# Altium schematic symbol library mylib.SchLib: 51 symbols
Pins are listed as number, name and electrical type; pins without a type are passive.

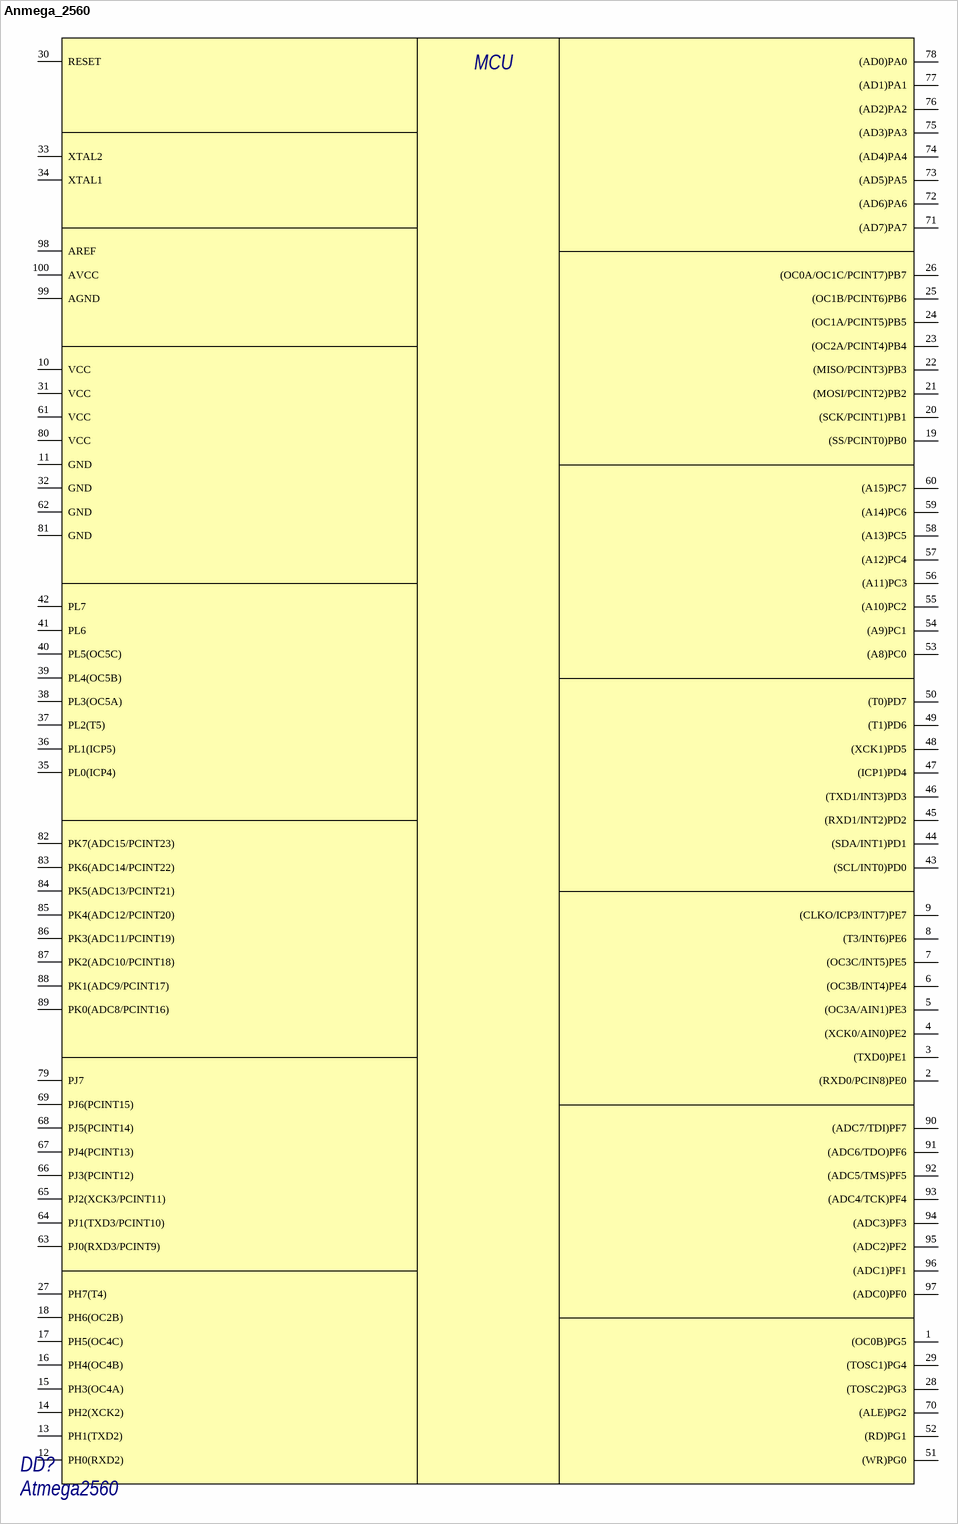
[diagram p0: symbol Anmega_2560]

## Anmega_2560
designator DD?, comment Atmega2560
Name: Atmega2560
footprint 100A (atmega2560)
pins: 1 (OC0B)PG5, 2 (RXD0/PCIN8)PE0, 3 (TXD0)PE1, 4 (XCK0/AIN0)PE2, 5 (OC3A/AIN1)PE3, 6 (OC3B/INT4)PE4, 7 (OC3C/INT5)PE5, 8 (T3/INT6)PE6, 9 (CLKO/ICP3/INT7)PE7, 10 VCC, 11 GND, 12 PH0(RXD2), 13 PH1(TXD2), 14 PH2(XCK2), 15 PH3(OC4A), 16 PH4(OC4B), 17 PH5(OC4C), 18 PH6(OC2B), 19 (SS/PCINT0)PB0, 20 (SCK/PCINT1)PB1, 21 (MOSI/PCINT2)PB2, 22 (MISO/PCINT3)PB3, 23 (OC2A/PCINT4)PB4, 24 (OC1A/PCINT5)PB5, 25 (OC1B/PCINT6)PB6, 26 (OC0A/OC1C/PCINT7)PB7, 27 PH7(T4), 28 (TOSC2)PG3, 29 (TOSC1)PG4, 30 RESET, 31 VCC, 32 GND, 33 XTAL2, 34 XTAL1, 35 PL0(ICP4), 36 PL1(ICP5), 37 PL2(T5), 38 PL3(OC5A), 39 PL4(OC5B), 40 PL5(OC5C), 41 PL6, 42 PL7, 43 (SCL/INT0)PD0, 44 (SDA/INT1)PD1, 45 (RXD1/INT2)PD2, 46 (TXD1/INT3)PD3, 47 (ICP1)PD4, 48 (XCK1)PD5, 49 (T1)PD6, 50 (T0)PD7, 51 (WR)PG0, 52 (RD)PG1, 53 (A8)PC0, 54 (A9)PC1, 55 (A10)PC2, 56 (A11)PC3, 57 (A12)PC4, 58 (A13)PC5, 59 (A14)PC6, 60 (A15)PC7, 61 VCC, 62 GND, 63 PJ0(RXD3/PCINT9), 64 PJ1(TXD3/PCINT10), 65 PJ2(XCK3/PCINT11), 66 PJ3(PCINT12), 67 PJ4(PCINT13), 68 PJ5(PCINT14), 69 PJ6(PCINT15), 70 (ALE)PG2, 71 (AD7)PA7, 72 (AD6)PA6, 73 (AD5)PA5, 74 (AD4)PA4, 75 (AD3)PA3, 76 (AD2)PA2, 77 (AD1)PA1, 78 (AD0)PA0, 79 PJ7, 80 VCC, 81 GND, 82 PK7(ADC15/PCINT23), 83 PK6(ADC14/PCINT22), 84 PK5(ADC13/PCINT21), 85 PK4(ADC12/PCINT20), 86 PK3(ADC11/PCINT19), 87 PK2(ADC10/PCINT18), 88 PK1(ADC9/PCINT17), 89 PK0(ADC8/PCINT16), 90 (ADC7/TDI)PF7, 91 (ADC6/TDO)PF6, 92 (ADC5/TMS)PF5, 93 (ADC4/TCK)PF4, 94 (ADC3)PF3, 95 (ADC2)PF2, 96 (ADC1)PF1, 97 (ADC0)PF0, 98 AREF, 99 AGND, 100 AVCC
text: MCU

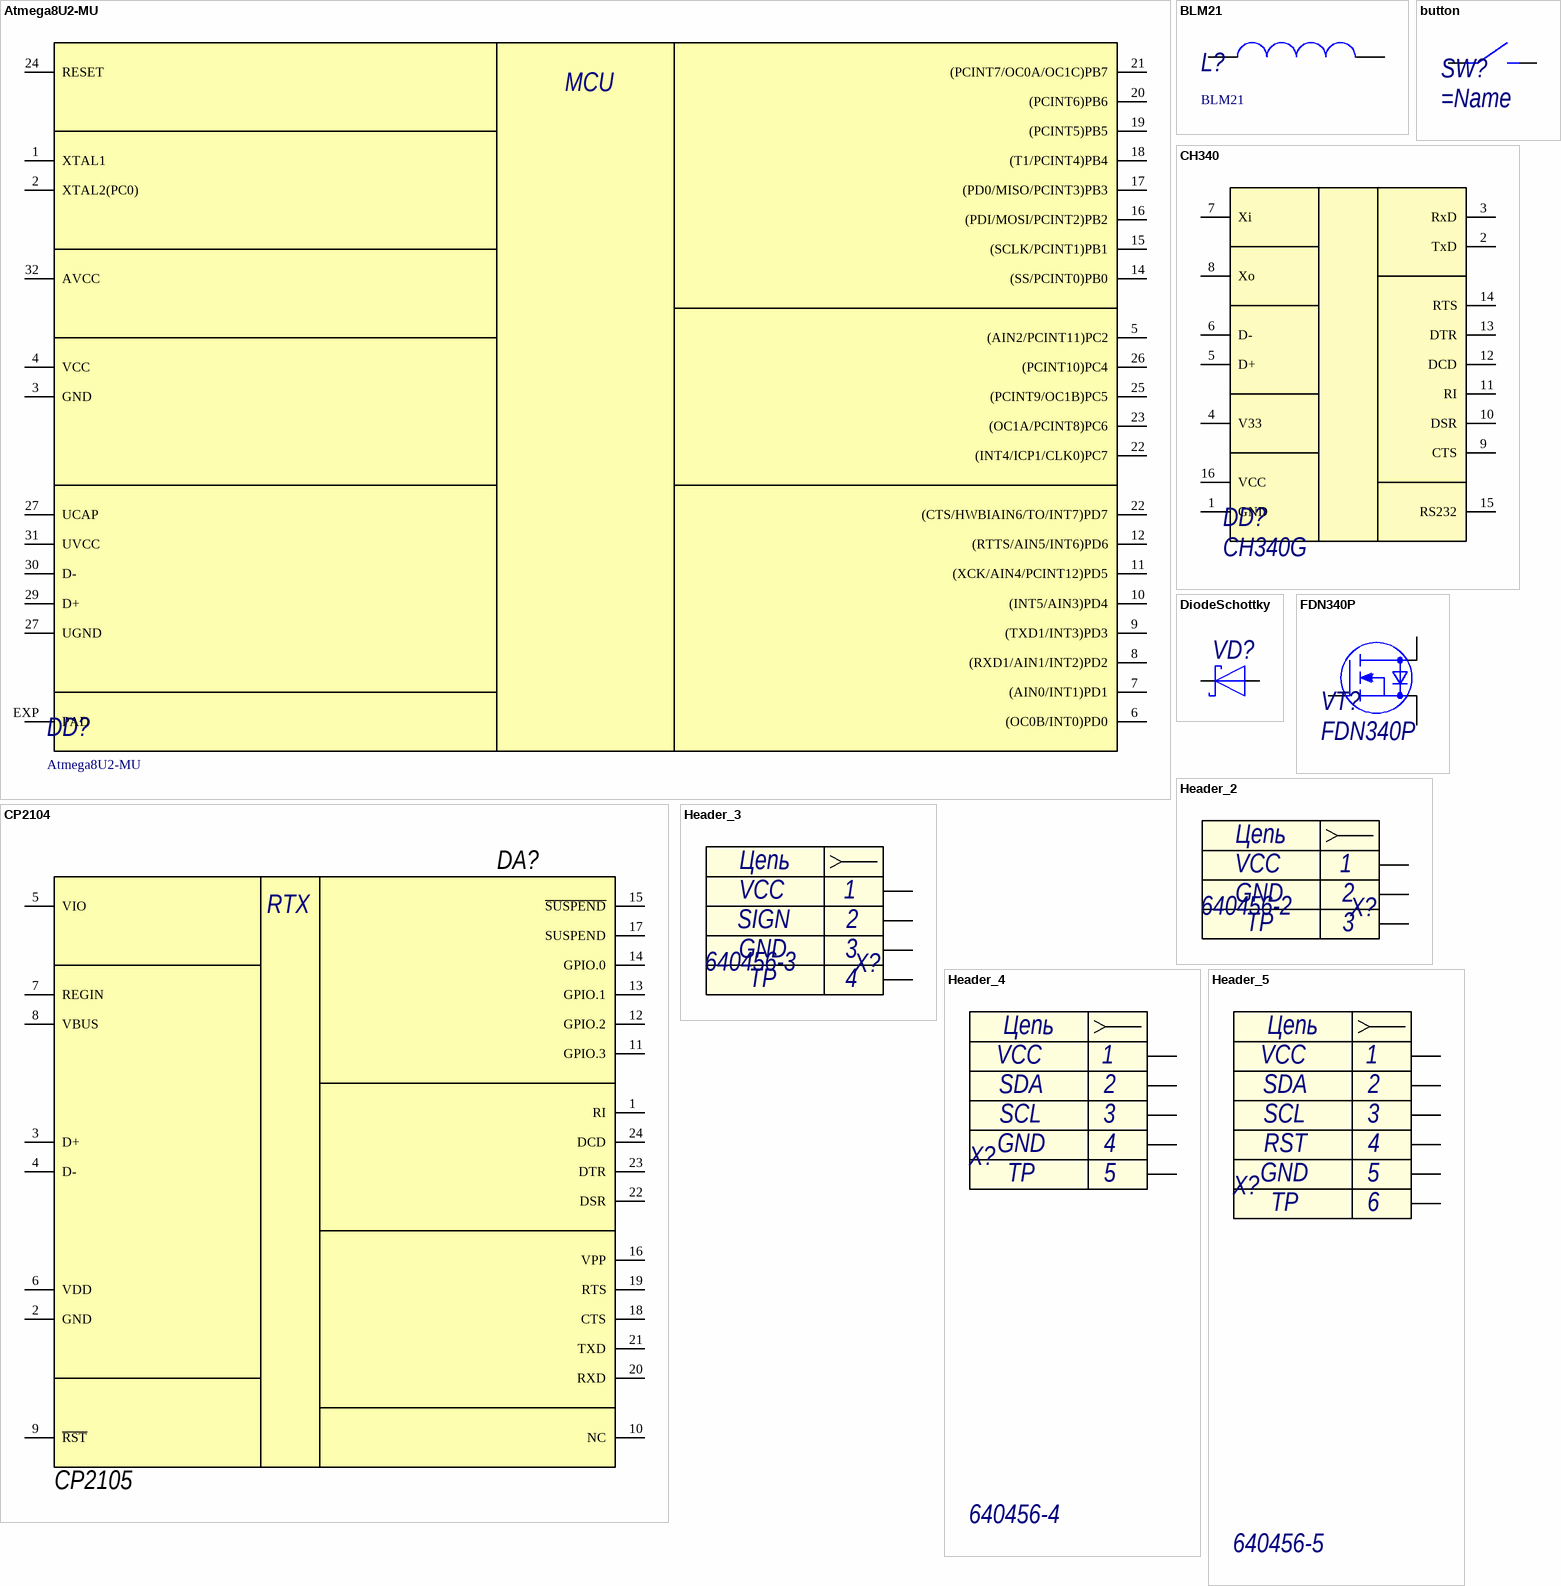
[diagram p1: symbols Atmega8U2-MU to Header_5]

## Atmega8U2-MU
designator DD?
Name: Atmega8U2-MU
pins: 1 XTAL1, 2 XTAL2(PC0), 3 GND, 4 VCC, 5 (AIN2/PCINT11)PC2, 6 (OC0B/INT0)PD0, 7 (AIN0/INT1)PD1, 8 (RXD1/AIN1/INT2)PD2, 9 (TXD1/INT3)PD3, 10 (INT5/AIN3)PD4, 11 (XCK/AIN4/PCINT12)PD5, 12 (RTTS/AIN5/INT6)PD6, 14 (SS/PCINT0)PB0, 15 (SCLK/PCINT1)PB1, 16 (PDI/MOSI/PCINT2)PB2, 17 (PD0/MISO/PCINT3)PB3, 18 (T1/PCINT4)PB4, 19 (PCINT5)PB5, 20 (PCINT6)PB6, 21 (PCINT7/OC0A/OC1C)PB7, 22 (INT4/ICP1/CLK0)PC7, 22 (CTS/HWBIAIN6/TO/INT7)PD7, 23 (OC1A/PCINT8)PC6, 24 RESET, 25 (PCINT9/OC1B)PC5, 26 (PCINT10)PC4, 27 UCAP, 27 UGND, 29 D+, 30 D-, 31 UVCC, 32 AVCC, EXP PAD
text: MCU

## BLM21
designator L?
Name: BLM21
footprint 0805 (Chip Resistor, 2-Leads, Body 2,10x1,30mm, IPC Medium Density)
pins: 1, 2

## button
designator SW?
footprint it-1187 (switch)
pins: 1, 2

## CH340
designator DD?, comment CH340G
Name: CH340G
footprint SOIC127P600X180-16N
pins: 1 GND, 2 TxD, 3 RxD, 4 V33, 5 D+, 6 D-, 7 Xi, 8 Xo, 9 CTS, 10 DSR, 11 RI, 12 DCD, 13 DTR, 14 RTS, 15 RS232, 16 VCC

## CP2104
designator DA?, comment CP2105
Наименование: CP2105
footprint QFN24-PAD (CP2104(Primary))
pins: 1 RI, 2 GND, 3 D+, 4 D-, 5 VIO, 6 VDD, 7 REGIN, 8 VBUS, 9 ~{RST}, 10 NC, 11 GPIO.3, 12 GPIO.2, 13 GPIO.1, 14 GPIO.0, 15 ~{SUSPEND}, 16 VPP, 17 SUSPEND, 18 CTS, 19 RTS, 20 RXD, 21 TXD, 22 DSR, 23 DTR, 24 DCD
text: RTX

## DiodeSchottky
designator VD?
Диод Шоттки
footprint SOD123_A
footprint SOD123_H
footprint SMA_A
footprint SMA_H
footprint SOD523_A
footprint SOD523_H
footprint DO-214AC (Molded Diode, 2-Leads, Body 4,30x2,70mm, IPC Medium Density)
pins: 1 K, 2 A

## FDN340P
designator VT?
Name: FDN340P
footprint SOT23 (mosfet)
pins: 1 G, 2 S, 3 D

## Header_2
designator X?, comment 640456-2
Разъем - 3 конт. розетка; Contact_1: VCC; Contact_2: GND; Contact_3: TP; Name: 640456-2
footprint JST-640456-2
footprint Clik-Mate 2
pins: 0, 1, 2
text: Цепь; 3

## Header_3
designator X?, comment 640456-3
Разъем - 3 конт. розетка; Contact_1: VCC; Contact_2: SIGN; Contact_3: GND; Contact_4: TP; Name: 640456-3
footprint JST-640456-3
footprint Clik-Mate 3 (5054050370)
footprint CWF-3
pins: 0, 1, 2, 3
text: Цепь; 4

## Header_4
designator X?, comment 640456-4
Разъем - 4 конт. мама; Contact_1: VCC; Contact_2: SDA; Contact_3: SCL; Contact_4: GND; Contact_5: TP; Name: 640456-4
footprint JST-640456-4
footprint Clik-Mate 4 (5054050470)
footprint CWF-4
pins: 0, 1, 2, 3, 4
text: Цепь; 5

## Header_5
designator X?, comment 640456-5
Разъем - 5 конт. мама; Contact_1: VCC; Contact_2: SDA; Contact_3: SCL; Contact_4: RST; Contact_5: GND; Contact_6: TP; Name: 640456-5
footprint JST-640456-5
footprint Clik-Mate 5 (5054050670)
footprint CWF-5
pins: 0, 1, 2, 3, 4, 5
text: Цепь; 6

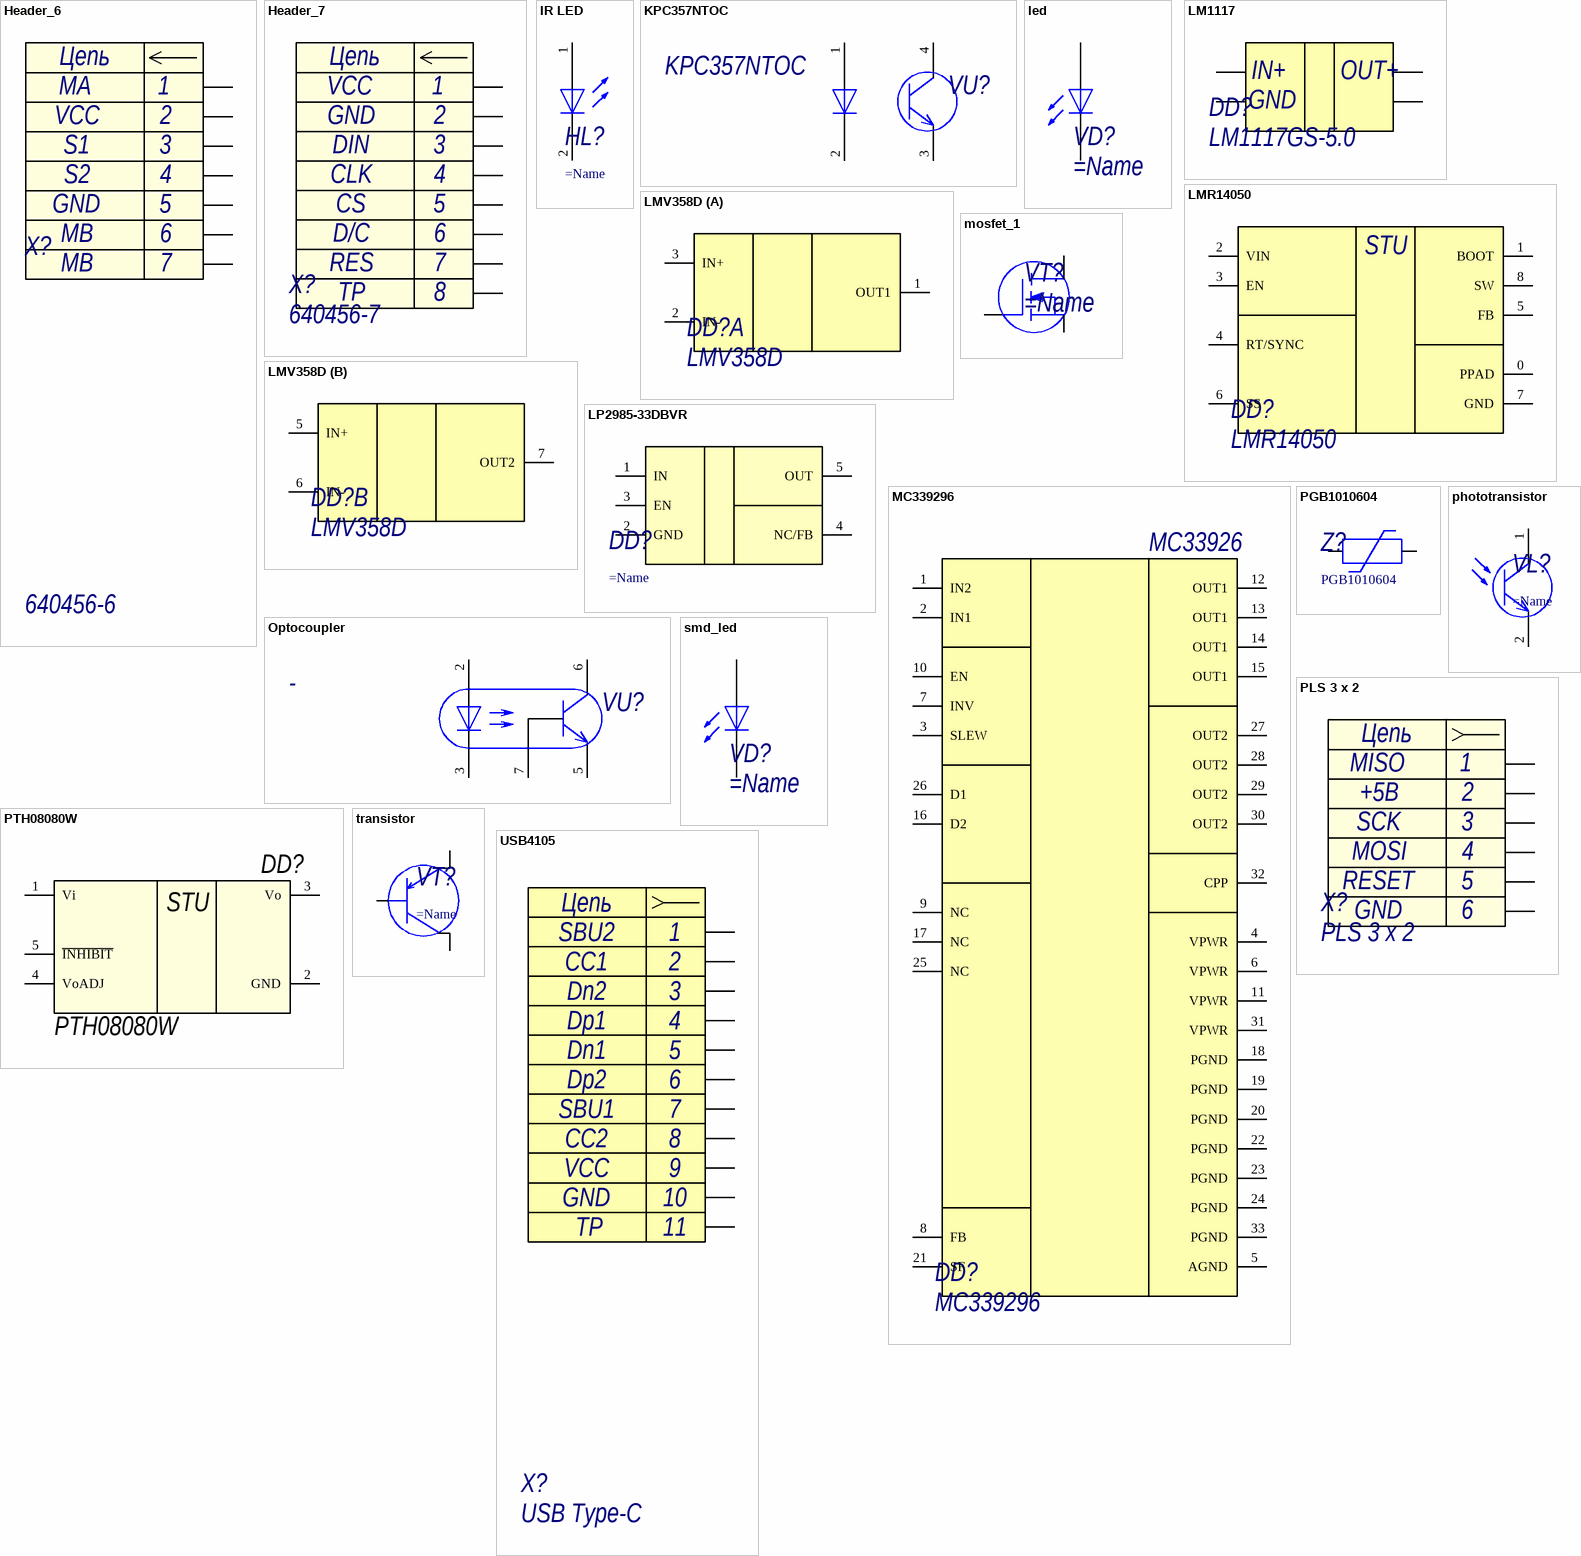
[diagram p2: symbols Header_6 to USB4105]

## Header_6
designator X?, comment 640456-6
Разъем - 6 конт. мама; Contact_1: MA; Contact_2: VCC; Contact_3: S1; Contact_4: S2; Contact_5: GND; Contact_6: MB; Contact_7: TP; Name: 640456-6
footprint JST-640456-6
footprint CWF-6
pins: 0, 1, 2, 3, 4, 5, 6
text: Цепь; 7

## Header_7
designator X?, comment 640456-7
Разъем - 7 конт. мама; Contact_1: VCC; Contact_2: GND; Contact_3: DIN; Contact_4: CLK; Contact_5: CS; Contact_6: D/C; Contact_7: RES; Contact_8: TP; Name: 640456-7
footprint JST-640456-7
footprint Clik-Mate 7 (505405-0770)
pins: 0, 1, 2, 3, 4, 5, 6, 7
text: Цепь; 8

## IR LED
designator HL?
footprint PCBComponent_2
pins: 1 A, 2 K

## KPC357NTOC
designator VU?
Оптопара транзисторная; Name: KPC357NTOC
footprint SOP-4 (SOP, 4-Leads, Body 3,90x4,40mm, Pitch 2,54mm, IPC High Density)
pins: 1 A, 2 K, 3 E, 4 C

## led
designator VD?
footprint VD
pins: 1 A, 2 K

## LM1117
designator DD?, comment LM1117GS-5.0
Contact_1: IN+; Contact_2: GND; Contact_3: OUT+; Name: LM1117GS-5.0
footprint SOT-223 (MC33269)
pins: 1, 2, 3, 4

## LMR14050
designator DD?
Name: LMR14050
footprint SOIC-8 with PAD
pins: 0 PPAD, 1 BOOT, 2 VIN, 3 EN, 4 RT/SYNC, 5 FB, 6 SS, 7 GND, 8 SW
text: STU

## LMV358D
designator DD?
Name: LMV358D
footprint SOIC-8 (LMV358)
part A pins: 1 OUT1, 2 IN-, 3 IN+
part B pins: 5 IN+, 6 IN-, 7 OUT2

## LP2985-33DBVR
designator DD?
pins: 1 IN, 2 GND, 3 EN, 4 NC/FB, 5 OUT

## mosfet_1
designator VT?
pins: 1, 2, 3

## MС339296
designator DD?
Name: MС339296
footprint PQFN32
pins: 1 IN2, 2 IN1, 3 SLEW, 4 VPWR, 5 AGND, 6 VPWR, 7 INV, 8 FB, 9 NC, 10 EN, 11 VPWR, 12 OUT1, 13 OUT1, 14 OUT1, 15 OUT1, 16 D2, 17 NC, 18 PGND, 19 PGND, 20 PGND, 21 SF, 22 PGND, 23 PGND, 24 PGND, 25 NC, 26 D1, 27 OUT2, 28 OUT2, 29 OUT2, 30 OUT2, 31 VPWR, 32 CPP, 33 PGND
text: MC33926

## Optocoupler
designator VU?, comment -
Оптопара транзисторная DIP-8; Name: -
footprint DIP-8
pins: 2, 3, 5, 6, 7

## PGB1010604
designator Z?
Name: PGB1010604
footprint защитный диод (PGB1010604)
pins: 1, 2

## phototransistor
designator VL?
footprint PCBComponent_1
pins: 1 C, 2 E

## PLS 3 x 2
designator X?
Contact_1: MISO; Contact_2: +5В; Contact_3: SCK; Contact_4: MOSI; Contact_5: RESET; Contact_6: GND; Name: PLS 3 x 2
footprint PLS 3 x 2
footprint PLS_2,0 3 x 2 (2)
pins: 1, 2, 3, 4, 5, 6
text: Цепь

## PTH08080W
designator DD?
DC/DC, 2.5А; Name: PTH08080W
footprint PTH08080W
pins: 1 Vi, 2 GND, 3 Vo, 4 VoADJ, 5 ~{INHIBIT}
text: STU

## smd_led
designator VD?
smd led
footprint 0603 - led
footprint 0805 - led (Chip Resistor, 2-Leads, Body 2,10x1,30mm, IPC Medium Density)
pins: 1 A, 2 K

## transistor
designator VT?
pins: 1, 2, 3

## USB4105
designator X?, comment USB Type-C
USB Type-C USB4105-GF-A / GCT; Contact_1: SBU2; Contact_2: CC1; Contact_3: Dn2; Contact_4: Dp1; Contact_5: Dn1; Contact_6: Dp2; Contact_7: SBU1; Contact_8: CC2; Contact_9: VCC; Contact_10: GND; Name: USB Type-C
footprint USB4105-15-A-120 (USB Type-c 16p USB4105-15-A-120)
pins: 1 B8, 2 A5, 3 B7, 4 A6, 5 A7, 6 B6, 7 A8, 8 B5, 9 GND, 10 VCC, TP
text: Цепь; 11

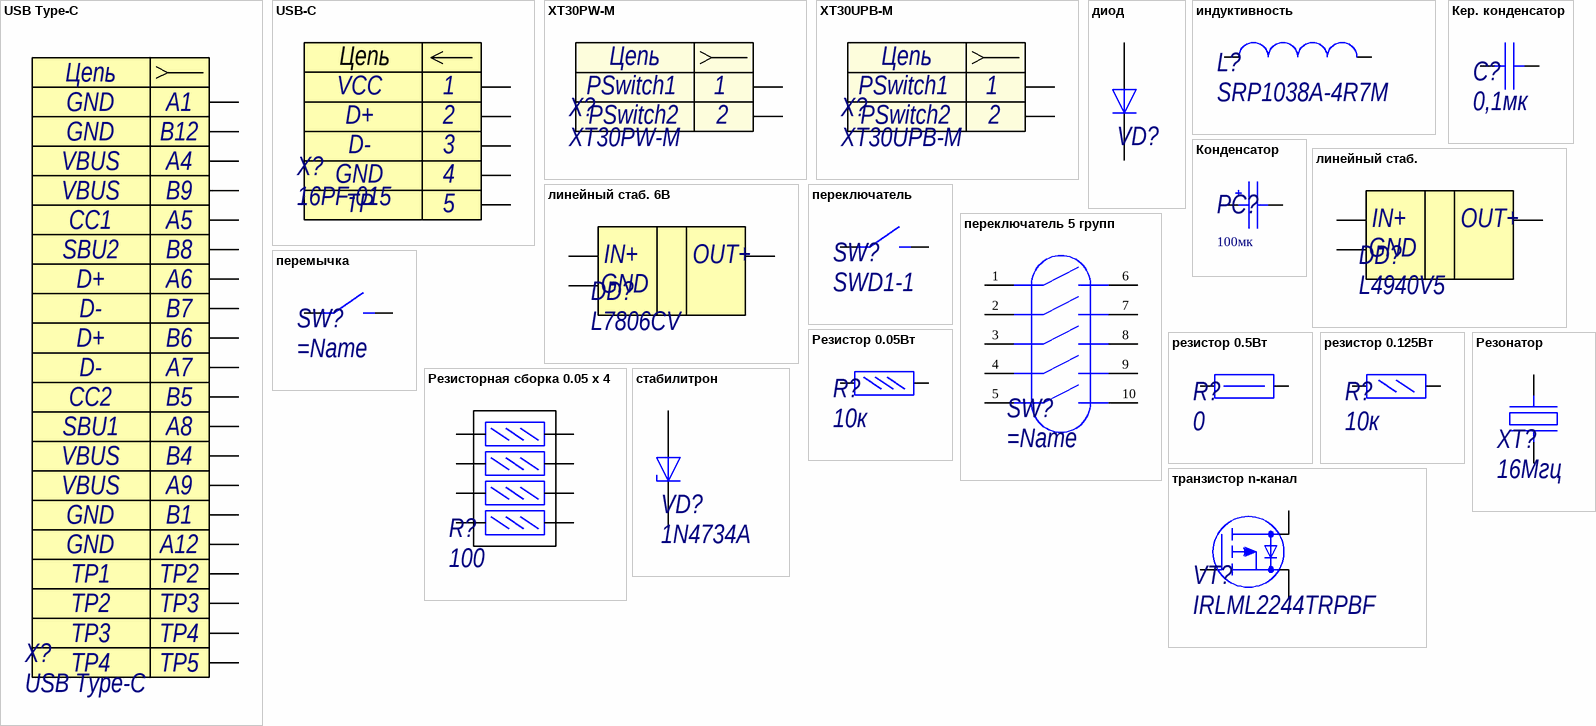
[diagram p3: symbols USB Type-C to транзистор n-канал]

## USB Type-C
designator X?
Contact_A1: GND; Contact_A4: VBUS; Contact_A5: CC1; Contact_B8: SBU2; Contact_A6: D+; Contact_B7: D-; Contact_B5: CC2; Contact_A8: SBU1; Contact_B12: GND; Contact_B9: VBUS; Contact_B6: D+; Contact_A7: D-; Contact_B4: VBUS; Contact_A9: VBUS; Contact_B1: GND; Contact_A12: GND; Name: USB Type-C
footprint 2130830005 (*)
pins: A1, A4, A5, A6, A7, A8, A9, A12, B1, B4, B5, B6, B7, B8, B9, B12, TP1, TP2, TP3, TP4
text: Цепь; TP5

## USB-C
designator X?, comment 16PF-015
Contact_1: VCC; Contact_2: D+; Contact_3: D-; Contact_4: GND; Contact_5: TP; Name: 16PF-015
footprint 16PF-015 (USB-Type C)
pins: 0, 1, 2, 3, 4
text: Цепь; 5

## XT30PW-M
designator X?
Contact_1: PSwitch1; Contact_2: PSwitch2; Name: XT30PW-M
footprint XT30PW-M
pins: 1, 2
text: Цепь

## XT30UPB-M
designator X?
Contact_1: PSwitch1; Contact_2: PSwitch2; Name: XT30UPB-M
footprint XT30UPB-M
pins: 1, 2
text: Цепь

## диод
designator VD?
CD1206-S01575
footprint DO-214AC (Molded Diode, 2-Leads, Body 4,30x2,70mm, IPC Medium Density)
pins: 1 K, 2 A

## индуктивность
designator L?, comment SRP1038A-4R7M
Name: SRP1038A-4R7M
footprint SRP1038A (SRP1038A-4R7M)
pins: 1, 2

## Кер. конденсатор
designator С?, comment 0,1мк
Value: 0,1мк
footprint C0603
footprint C1210_AA - 2.5
footprint C0402
pins: 1, 2

## Конденсатор
designator PC?, comment 100мк
Value: 100мк
footprint TR13F (Aluminum Electrolytic Capacitor, Body 6,60x6,60x6,30mm, IPC Low Density)
pins: 1, 2

## линейный стаб.
designator DD?, comment L4940V5
Contact_1: IN+; Contact_2: GND; Contact_3: OUT+; Name: L4940V5
pins: 1, 2, 3

## линейный стаб. 6В
designator DD?, comment L7806CV
Contact_1: IN+; Contact_2: GND; Contact_3: OUT+; Name: L7806CV
pins: 1, 2, 3

## переключатель
designator SW?, comment SWD1-1
DIP SWD1-1; Name: SWD1-1
footprint DIP-swd1-1 (SWD1-2)
pins: 1, 2

## переключатель 5 групп
designator SW?
SWD1-5
footprint DIP-swd1-5 (SWD1-5)
pins: 1, 2, 3, 4, 5, 6, 7, 8, 9, 10

## перемычка
designator SW?
footprint JUMPER
pins: 1, 2

## Резистор 0.05Вт
designator R?, comment 10к
Резистор 0,05Вт; Value: 10к
footprint R0603
pins: 1, 2

## резистор 0.5Вт
designator R?, comment 0
Value: 0
footprint R1210
pins: 1, 2

## резистор 0.125Вт
designator R?, comment 10к
Резистор  0,125Вт; Value: 10к
footprint 0805 (Chip Resistor, 2-Leads, Body 2,10x1,30mm, IPC Medium Density)
pins: 1, 2

## Резисторная сборка 0.05 x 4
designator R?, comment 100
Value: 100
footprint R0603X4
pins: 1, 2, 3, 4, 5, 6, 7, 8

## Резонатор
designator XT?, comment 16Мгц
12.88605 / Geyer; Name: 12.88605; Value: 16Мгц
footprint KX-7
pins: 1, 3

## стабилитрон
designator VD?, comment 1N4734A
Case: DO-41; Name: 1N4734A
footprint DO-41 (zener diode)
footprint DO-41 Vertical
pins: 1 A, 2 K

## транзистор n-канал
designator VT?, comment IRLML2244TRPBF
Name: IRLML2244TRPBF
footprint SOT23 (mosfet)
pins: 1 G, 2 S, 3 D